# EAGLE library part LM75B (library Main_board)
Digital temperature sensor and thermal watchdog AAL Eindhoven MK
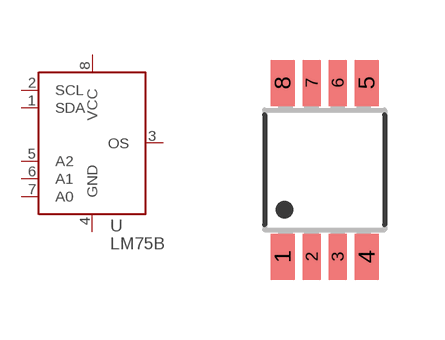
[diagram p4: symbol with the pads of SOT505-1; footprint SOT505-1]

Designator prefix U

## LM75BDP (AVAILABILITY: Unavailable; MF: NXP Semiconductors; MP: LM75B; PACKAGE: None; PRICE: None)  [SOT505-1]
1  SDA
2  SCL
3  OS  out
4  GND
5  A2  in
6  A1  in
7  A0  in
8  VCC  pwr

## Footprint SOT505-1 (pad centres in mm)
SOT505-1 TSSOP8: plastic thin shrink small outline package; 8 leads; body width 3 mm JEDEC: -- IEC: --
smd 0.6 x 1.15: 1 -1.05,-2.175; 4 1.05,-2.175; 5 1.05,2.175; 8 -1.05,2.175
smd 0.45 x 1.15: 2 -0.325,-2.175; 3 0.325,-2.175; 6 0.325,2.175; 7 -0.325,2.175